# Altium schematic symbol library Switcher.SchLib: 1 symbol
Pins are listed as number, name and electrical type; pins without a type are passive.

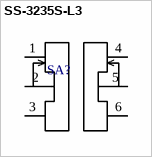
[diagram p0: symbol SS-3235S-L3]

## SS-3235S-L3
designator SA?  (value not drawn)
HelpURL: *; PartNumber: *; LCSCPart: *
footprint SS-3235S-L3
pins: 1, 2, 3, 4, 5, 6